# EAGLE library part MCP6S21 (library ingolia)
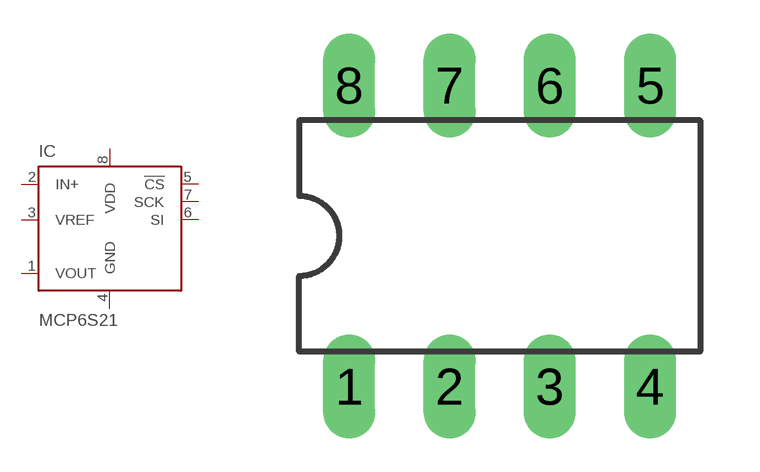
[diagram p6: symbol with the pads of DIL08; footprint DIL08]

Designator prefix IC

## MCP6S21  [DIL08]
1  VOUT  out
2  IN+  in
3  VREF  in
4  GND  pwr
5  !CS  in
6  SI  in
7  SCK  in
8  VDD  pwr

## Footprint DIL08 (pad centres in mm)
drill 0.813 long: 1 -3.81,-3.81; 2 -1.27,-3.81; 3 1.27,-3.81; 4 3.81,-3.81; 5 3.81,3.81; 6 1.27,3.81; 7 -1.27,3.81; 8 -3.81,3.81